# Altium footprint library Full_lib.PcbLib: 247 footprints (part 4 of 16)
Each footprint in its own frame and in the unit in brackets; x right, y up, seen from the top. Pads: shape width x height; smd on the part's side, far side on the other; paste and mask are expansions set on the pad; w line width, h text height; cw(c..) or ccw(c..) is an arc to the next point about the centre after c.
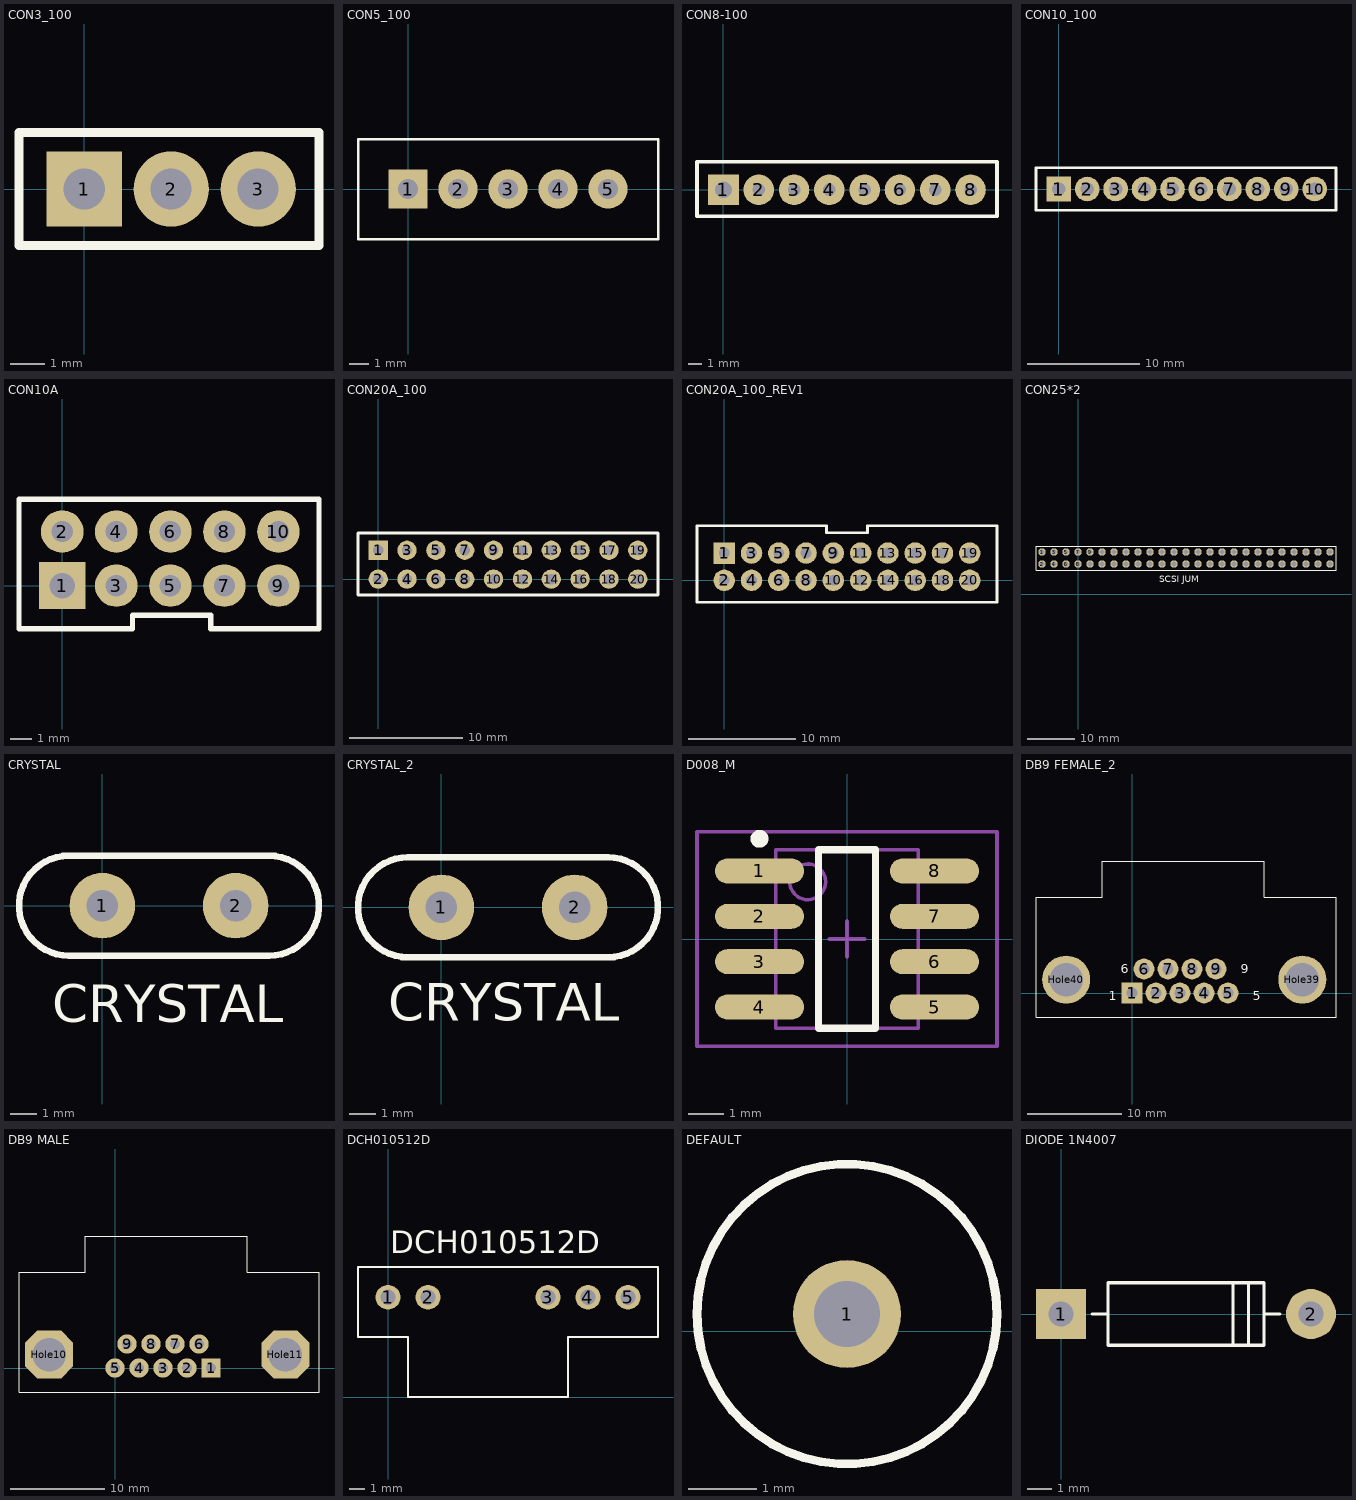
[diagram p3: the footprints below, top view; thin cyan lines are the x and y axes]

## CON3_100 [mm]
pads (3):
  rect 2.2x2.2 hole 1.2: 1(0,0)
  round 2.2 hole 1.2: 2(2.54,0) 3(5.08,0)
Top Overlay:
  lines w0.254: -1.905,-1.651 6.858,-1.651 6.858,1.651 -1.905,1.651 -1.905,-1.651

## CON5_100 [mm]
pads (5):
  rect 2x2 hole 1: 1(0,0)
  round 2 hole 1: 2(2.54,0) 3(5.08,0) 4(7.62,0) 5(10.16,0)
Top Overlay:
  lines w0.127: -2.54,-2.54 12.7,-2.54 12.7,2.54 -2.54,2.54 -2.54,-2.54

## CON8-100 [mm]
pads (8):
  rect 2.2x2.2 hole 1.2: 1(0,0)
  round 2.2 hole 0.9: 2(2.54,0) 3(5.08,0) 4(7.62,0) 5(10.16,0) 6(12.7,0) 7(15.24,0) 8(17.78,0)
Top Overlay:
  lines w0.254: -1.905,-1.905 -1.905,2.032 -1.27,2.032 19.685,2.032 19.685,-1.905 -1.905,-1.905

## CON10_100 [mm]
pads (10):
  rect 2.2x2.2 hole 1.2: 1(0,0)
  round 2.2 hole 1.2: 2(2.54,0) 3(5.08,0) 4(7.62,0) 5(10.16,0) 6(12.7,0) 7(15.24,0) 8(17.78,0) 9(20.32,0) 10(22.86,0)
Top Overlay:
  lines w0.254: -2.032,-1.905 24.765,-1.905 24.765,1.905 -2.032,1.905 -2.032,-1.905

## CON10A [mm]
pads (10):
  rect 2.2x2.2 hole 1.2: 1(0,0)
  round 2 hole 1: 2(0,2.54) 3(2.54,0) 4(2.54,2.54) 5(5.08,0) 6(5.08,2.54) 7(7.62,0) 8(7.62,2.54) 9(10.16,0) 10(10.16,2.54)
Top Overlay:
  lines w0.254: -1.397,-2.032 3.302,-2.032 ; 3.302,-2.032 -2.032,-2.032 -2.032,4.064 12.065,4.064 12.065,-2.032 6.985,-2.032 6.985,-1.397 3.302,-1.397 3.302,-2.032

## CON20A_100 [mm]
pads (20):
  rect 1.7x1.7 hole 0.9: 1(0,2.54)
  round 1.7 hole 0.9: 2(0,0) 3(2.54,2.54) 4(2.54,0) 5(5.08,2.54) 6(5.08,0) 7(7.62,2.54) 8(7.62,0) 9(10.16,2.54) 10(10.16,0) 11(12.7,2.54) 12(12.7,0) 13(15.24,2.54) 14(15.24,0) 15(17.78,2.54) 16(17.78,0) 17(20.32,2.54) 18(20.32,0) 19(22.86,2.54) 20(22.86,0)
Top Overlay:
  lines w0.254: -1.778,-1.397 -1.778,4.064 24.638,4.064 24.638,-1.397 -1.778,-1.397

## CON20A_100_REV1 [mm]
pads (20):
  rect 2x2 hole 1: 1(0,2.54)
  round 2 hole 1: 2(0,0) 3(2.54,2.54) 4(2.54,0) 5(5.08,2.54) 6(5.08,0) 7(7.62,2.54) 8(7.62,0) 9(10.16,2.54) 10(10.16,0) 11(12.7,2.54) 12(12.7,0) 13(15.24,2.54) 14(15.24,0) 15(17.78,2.54) 16(17.78,0) 17(20.32,2.54) 18(20.32,0) 19(22.86,2.54) 20(22.86,0)
Top Overlay:
  lines w0.254: -2.54,-2.032 25.4,-2.032 25.4,5.08 13.335,5.08 13.335,4.445 9.525,4.445 9.525,5.08 -2.54,5.08 -2.54,-2.032

## CON25*2 [mil]
pads (50):
  round 62 hole 38: 1(-300,350) 2(-300,250) 3(-200,350) 4(-200,250) 5(-100,350) 6(-100,250) 7(0,350) 8(0,250) 9(100,350) 10(100,250) 11(200,350) 12(200,250) 13(300,350) 14(300,250) 15(400,350) 16(400,250) 17(500,350) 18(500,250) 19(600,350) 20(600,250) 21(700,350) 22(700,250) 23(800,350) 24(800,250) 25(900,350) 26(900,250) 27(1000,350) 28(1000,250) 29(1100,350) 30(1100,250) 31(1200,350) 32(1200,250) 33(1300,350) 34(1300,250) 35(1400,350) 36(1400,250) 37(1500,350) 38(1500,250) 39(1600,350) 40(1600,250) 41(1700,350) 42(1700,250) 43(1800,350) 44(1800,250) 45(1900,350) 46(1900,250) 47(2000,350) 48(2000,250) 49(2100,350) 50(2100,250)
Top Overlay:
  lines w1: -350,200 2150,200 2150,400 -350,400 -350,200
  text "SCSI JUM" at 675,100 h56.25

## CRYSTAL [mm]
pads (2):
  round 2.5 hole 1.2: 1(0,0) 2(5.08,0)
Top Overlay:
  lines w0.254: -1.27,-1.905 cw(c-1.27,0) -1.27,1.905 6.35,1.905 cw(c6.35,0) 6.35,-1.905 -1.27,-1.905
  text "CRYSTAL" at -1.905,-4.445 h1.43

## CRYSTAL_2 [mm]
pads (2):
  round 2.5 hole 1.2: 1(0,0) 2(5.08,0)
Top Overlay:
  lines w0.254: -1.27,-1.905 cw(c-1.27,0) -1.27,1.905 6.35,1.905 cw(c6.35,0) 6.35,-1.905 -1.27,-1.905
  text "CRYSTAL" at -2.032,-4.318 h1.43

## D008_M [mm] "8-Pin Small Outline Integrated Circuit 1.27 mm Pitch, IPC Low Density"
height 1.75
pads (8):
  oval 2.5x0.7 smd: 1(-2.45,1.905) 2(-2.45,0.635) 3(-2.45,-0.635) 4(-2.45,-1.905) 5(2.45,-1.905) 6(2.45,-0.635) 7(2.45,0.635) 8(2.45,1.905)
Top Overlay:
  circle w0.25: c-2.45,2.805 r0.125
  lines w0.2: -0.8,-2.5 -0.8,2.5 0.8,2.5 0.8,-2.5 -0.8,-2.5
Mechanical 13:
  circle w0.1: c-1.1,1.6 r0.5
  lines w0.1: -2,-2.5 -2,2.5 2,2.5 2,-2.5 -2,-2.5
Mechanical 15:
  lines w0.1: -0.5,0 0.5,0 ; 0,-0.5 0,0.5 ; -4.2,-3 -4.2,3 4.2,3 4.2,-3 -4.2,-3
3D body: height 1.75, standoff 0, extent -2,-2.5 2,2.5

## DB9 FEMALE_2 [mil]
pads (11):
  rect 86.6x86.6 hole 47.23: 1(0,0)
  round 86.6 hole 47.23: 2(100,0) 3(200,0) 4(300,0) 5(400,0) 6(50,100) 7(150,100) 8(250,100) 9(350,100)
  round 200 hole 140: Hole39(710,56) Hole40(-274,56)
Top Overlay:
  lines w5: -400,-100 -400,400 -125,400 -125,550 550,550 550,400 850,400 850,-100 -400,-100
  text "1" at -95.88,-31.13 h37.5
  text "6" at -45.88,81.38 h37.5
  text "9" at 454.12,81.38 h37.5
  text "5" at 504.12,-31.13 h37.5
Mechanical 1:
  text "1" at -95.88,-31.13 h37.5
  text "5" at 504.12,-31.13 h37.5
  text "9" at 454.12,81.38 h37.5
  text "6" at -45.88,81.38 h37.5

## DB9 MALE [mil] "DB9 MALE"
pads (11):
  rect 80x80 hole 40: 1(400,0)
  round 80 hole 40: 2(300,0) 3(200,0) 4(100,0) 5(0,0) 6(350,100) 7(250,100) 8(150,100) 9(50,100)
  oct 200x200 hole 140: Hole10(-274,56) Hole11(710,56)
Top Overlay:
  lines w5: -400,-100 850,-100 850,400 550,400 550,550 -125,550 -125,400 -400,400 -400,-100
Mechanical 1:

## DCH010512D [mil]
pads (5):
  round 62 hole 38: 1(0,250) 2(100,250) 3(400,250) 4(500,250) 5(600,250)
Top Overlay:
  lines w5: -75,150 50,150 50,0 450,0 450,150 675,150 675,325 -50,325 -75,325 -75,150
  text "DCH010512D" at 5,360 h56.25

## DEFAULT [mil]
pads (1):
  round 62 hole 38: 1(100,10)
Top Overlay:
  circle w5: c100,10 r86.02

## DIODE 1N4007 [mil]
pads (2):
  rect 80x80 hole 40: 1(0,0)
  round 80 hole 40: 2(400,0)
Top Overlay:
  lines w5: 50,0 75,0 ; 275,-50 275,50 ; 300,-50 300,50 ; 325,0 350,0 ; 75,-50 325,-50 325,50 75,50 75,-50